# Altium schematic symbol library RES-2.SchLib: 1 symbol
Pins are listed as number, name and electrical type; pins without a type are passive.

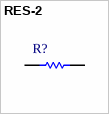
[diagram p0: symbol RES-2]

## RES-2
designator R?
pins: 1, 2